# Altium schematic symbol library Orion Sleep - Control Board - Rev 2.SCHLIB: 156 symbols (part 2 of 3)
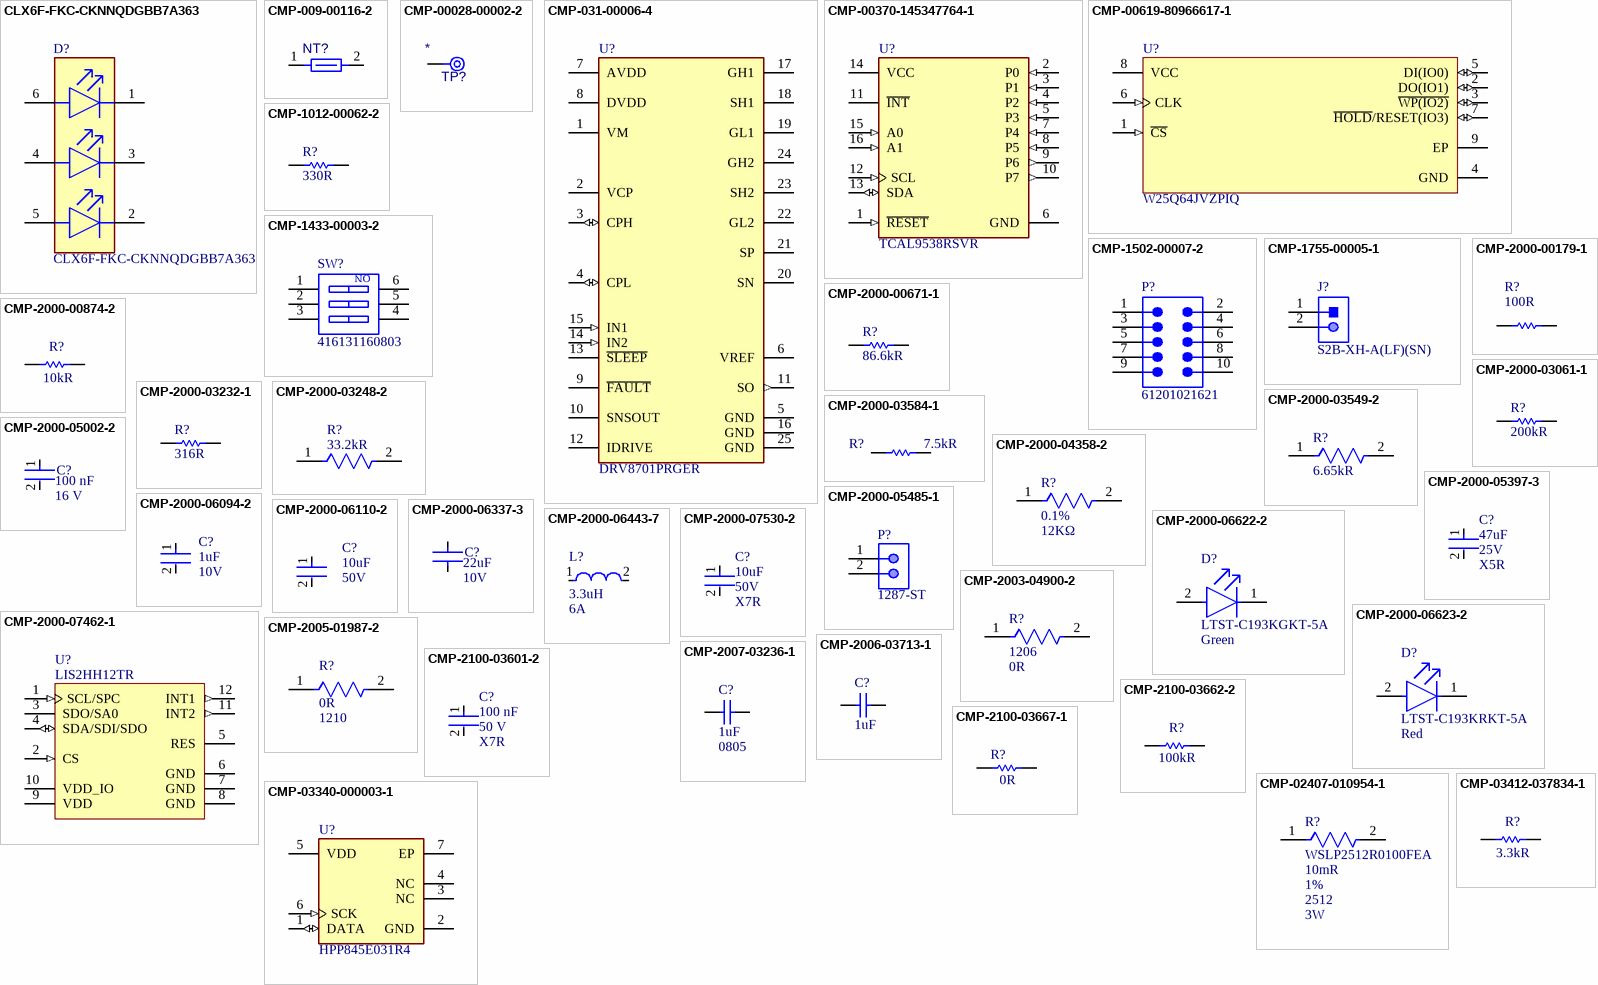
[diagram p4: symbols CLX6F-FKC-CKNNQDGBB7A363 to CMP-03412-037834-1]

## CMP-2000-07530-2
designator C?, comment value 10uF  Temperature Characteristic: X7R  Voltage Rating: 50V  (hidden comment: CL31B106KBHNNNE)
10 µF ±10% 50V Ceramic Capacitor X7R 1206 (3216 Metric); Manufacturer: Samsung; Manufacturer 1: Samsung Electro-Mechanics; Temperature Coefficient: 15%; Digikey Description: CAP CER 10UF 50V X7R 1206; Device Class L1: Passive Components; Lead Free: Yes; Device Class L3: Ceramic Capacitors; Tolerance: 10%; Octopart: https://octopart.com/cl31b106kbhnnne-samsung-30507377; ComponentLink2URL: http://www.samsungsem.com/global/front/downloadcms.do?path=%2F%2Fglobal%2F%2Fsupport%2F%2Fproduct-search%2F%2Fmlcc%2F%2F__icsFiles%2F%2Fafieldfile%2F%2F2019%2F%2F06%2F%2F18&fileName=CL31B106KBHNNNE-19.pdf; Temperature Range Low: -55°C; RoHS: TRUE; Material: Ceramic; Temperature: -55°C to +125°C; Category: Cap; ComponentLink2Description: Datasheet; Manufacturer Part Number: CL31B106KBHNNNE; Automotive: No; Device Class L2: Capacitors; Capacitance: 10uF; Height: 1.8mm; Temperature Range High: +125°C; Package: CL31B106KBHNNNE; Manufacturer Part Number 1: CL31B106KBHNNNE; Supplier 1: Digikey; Supplier Part Number 1: 1276-6767-1-ND
footprint C1206
pins: 1, 2

## CMP-2003-04900-2
designator R?, comment Case/Package: 1206  Resistance: 0R  (hidden comment: AC1206JR-070RL)
0 Ohms Jumper Chip Resistor 1206 (3216 Metric) Automotive AEC-Q200, Moisture Resistant Thick Film; Manufacturer 1: YAGEO; Tolerance: 5%; Temperature Coefficient: 200ppm/°C; Power Rating: 250mW; Voltage Rating: 200V; Value: 0R; Lead Free: Lead Free; Termination: SMD/SMT; Length: 0.122inch; Height: 0.026inch; Series: AC; Max Operating Temperature: 155°C; Case Code (Imperial): 1206; Max Power Dissipation: 250mW; Case Code (Metric): 3216; Number of Terminations: 2; Package Quantity: 5000; Features: Moisture Resistant; Resistor Type: Thick Film; Min Operating Temperature: -55°C; Packaging: Tape and Reel; Width: 0.063inch; RoHS Compliant: Yes; Manufacturer Part Number 1: AC1206JR-070RL; Supplier 1: Digikey; Supplier Part Number 1: 311-0.0LICT-ND
footprint R1206 (Chip Resistor; Body 3.1 x 1.6 mm (LxW typ))
pins: 1, 2

## CMP-2005-01987-2
designator R?, comment Resistance: 0R  Case Code (Imperial): 1210  (hidden comment: CRCW12100000Z0EA)
0 Ohms Jumper Chip Resistor 1210 (3225 Metric) Automotive AEC-Q200 Thick Film; Manufacturer 1: Vishay Dale; Temperature Coefficient: 0ppm/°C; Max Power Dissipation: 500mW; Voltage Rating: 200V; Value: 0R; Packaging: Tape and Reel; Max Operating Temperature: 155°C; REACH SVHC: No SVHC; Min Operating Temperature: -55°C; Package Quantity: 1; Length: 3.2mm; Case Code (Metric): 3225; Case/Package: 1210; Composition: Thick Film; Military Standard: Not; Contact Plating: Tin; Radiation Hardening: No; Depth: 2.5mm; Termination: SMD/SMT; Features: Automotive AEC-Q200; Width: 0.098inch; Mount: Surface Mount; Power Rating: 500mW; Weight: 0.000564oz; Number of Terminations: 2; Height: 0.55mm; Manufacturer Part Number 1: CRCW12100000Z0EA; Supplier 1: Digikey; Supplier Part Number 1: 541-0.0VCT-ND
footprint R1210
pins: 1, 2

## CMP-2006-03713-1
designator C?, comment value 1uF  (hidden comment: C0603C105K3RACTU)
1 µF ±10% 25V Ceramic Capacitor X7R 0603 (1608 Metric); Manufacturer: Kemet; Part Number: C0603C105K3RACTU; Manufacturer 1: KEMET; Manufacturer Part Number 1: C0603C105K3RACTU; Supplier 1: Digikey; Supplier Part Number 1: 399-C0603C105K3RACTUCT-ND
footprint C0603 (Chip Capacitor, 2-Leads, Body 1.60x0.80mm)
pins: 1, 2
1 alternate drawing of the same symbol

## CMP-2007-03236-1
designator C?, comment value 1uF  Case/Package: 0805  (hidden comment: C0805C105K5RACTU)
1 µF ±10% 50V Ceramic Capacitor X7R 0805 (2012 Metric); Manufacturer: Kemet; Multilayer: Yes; Part Number: C0805C105K5RACTU; Supplier: Mouser; Supplier Part Number: 80-C0805C105K5R; Manufacturer Part Number: C0805C105K5RACTU; RoHS: Yes; Category: Ceramic Capacitors; Stock: 81648; Pricing: 1=0.31, 10=0.191, 50=0.191, 100=0.133, 1000=0.095, 10000=0.073 (USD); Mounting Technology: Surface Mount; Pins: 2; Dielectric Material: Ceramic; Package Shape: Rectangular; Terminal Finish: Nickel; Min Operating Temperature: -55°C; Max Operating Temperature: 125°C; JESD-609 Code: e3; Capacitor Type: Ceramic; Tolerance  (fill in as +-): 10%; Package Style: SMTMeter; Packaging: Tape and Reel; Tolerance (fill in as +-): 10%; Rated DC Voltage (URdc): 50V; Temperature Characteristics Code: X7R; Termination: Wraparound; Length: 2mm; Width: 1.25mm; Height: 1.25mm; Reach SVHC Compliant: Yes; RoHS Compliant: Yes; ComponentLink1URL: https://datasheet.ciiva.com:443/pdfs/VipMasterIC/IC/KEME/KEME-S-A0008991654/KEME-S-A0008991654-1.pdf?src-supplier=IHS+Markit; ComponentLink1Description: https://datasheet.ciiva.com:443/pdfs/VipMasterIC/IC/KEME/KEME-S-A0008991654/KEME-S-A0008991654-1.pdf?src-supplier=IHS+Markit; ComponentLink2URL: https://datasheet.ciiva.com/7842/1732744-7842192.pdf?src-supplier=Element14; ComponentLink2Description: https://datasheet.ciiva.com/7842/1732744-7842192.pdf?src-supplier=Element14; ComponentLink3URL: https://datasheet.ciiva.com/22700/1851736-22700523.pdf?src-supplier=Element14; ComponentLink3Description: https://datasheet.ciiva.com/22700/1851736-22700523.pdf?src-supplier=Element14; ComponentLink4URL: https://datasheet.ciiva.com/5408/kem-c1002-x7r-smd-5408569.pdf?src-supplier=Mouser; ComponentLink4Description: https://datasheet.ciiva.com/5408/kem-c1002-x7r-smd-5408569.pdf?src-supplier=Mouser; Manufacturer 1: KEMET; Manufacturer Part Number 1: C0805C105K5RACTU; Supplier 1: Digikey; Supplier Part Number 1: 399-C0805C105K5RACTUCT-ND
footprint C0805 (Ceramic Chip Capacitor; Body 2 x 1.2 mm (LxW typ))
pins: 1, 2
1 alternate drawing of the same symbol

## CMP-2100-03601-2
designator C?, comment Voltage: 50 V  Capacitance: 100 nF  Temperature Characteristic: X7R  (hidden comment: CC0603KRX7R9BB104)
0.1 µF ±10% 50V Ceramic Capacitor X7R 0603 (1608 Metric); Manufacturer: YAGEO; Temperature Coefficient: 15%; Tolerance: 0.1; Value: 100nF; Height: 0.9mm; Material: Ceramic; ComponentLink2Description: Datasheet; Device Class L2: Capacitors; Temperature Range High: +125°C; Category: Cap; Footprint Url: http://www.yageo.com/exep/pages/download/literatures/UPY-C_GEN_24.pdf; ComponentLink2URL: http://www.yageo.com/documents/recent/UPY-GPHC_X7R_6.3V-to-50V_18.pdf; Package: CC0603-DA; Temperature: -55°C to +125°C; Voltage Rating: 50 V; Device Class L1: Passive Components; Temperature Range Low: -55°C; Manufacturer Part Number: CC0603KRX7R9BB104; RoHS: TRUE; Automotive: No; Device Class L3: Ceramic Capacitors; Octopart: https://octopart.com/cc0603krx7r9bb104-yageo-42244635; Mouser Description: Multilayer Ceramic Capacitor, CC Series, 0.1 - F, - 10%, X7R, 50 V, 0603 [1608 Metric]; Lead Free: Yes; Digikey Description: CAP CER 0.1UF 50V X7R 0603; Manufacturer 1: YAGEO; Manufacturer Part Number 1: CC0603KRX7R9BB104; Supplier 1: Digikey; Supplier Part Number 1: 311-1344-1-ND
footprint C0603 (Chip Capacitor, 2-Leads, Body 1.60x0.80mm)
pins: 1, 2

## CMP-2100-03662-2
designator R?, comment Resistance: 100kR  (hidden comment: RC0603FR-07100KL)
100 kOhms ±1% 0.1W, 1/10W Chip Resistor 0603 (1608 Metric) Moisture Resistant Thick Film; Manufacturer 1: YAGEO; Voltage Rating (DC): 50V; Max Power Dissipation: 100mW; Temperature Coefficient: 100ppm/°C; Working Voltage: 75V; Value: 100kR; Length: 1.6mm; Lead Free: Lead Free; Number of Terminations: 2; Packaging: Tape and Reel; Voltage Rating: 50V; Termination: SMD/SMT; Width: 0.8mm; Resistor Type: Thick Film; Resistance Tolerance: 1%; Features: Moisture Resistant; Height: 0.45mm; Construction: Rectangular; Case/Package: 0603; Military Standard: Not; Case Code (Imperial): 0603; Series: RC; Technology: THICK FILM; Depth: 0.8mm; RoHS Compliant: Yes; REACH SVHC: No SVHC; Min Operating Temperature: -55°C; Case Code (Metric): 1608; Max Operating Temperature: 155°C; Power Rating: 100mW; Number of Pins: 2; Tolerance: 1%; Manufacturer Part Number 1: RC0603FR-07100KL; Supplier 1: Digikey; Supplier Part Number 1: 311-100KHRCT-ND
footprint R0603 (Chip Resistor; Body 1.6 x 0.9 mm (LxW typ))
pins: 1, 2

## CMP-2100-03667-1
designator R?, comment Resistance: 0R  (hidden comment: RC0603JR-070RL)
0 Ohms Jumper Chip Resistor 0603 (1608 Metric) Moisture Resistant Thick Film; Manufacturer: Yageo; Temperature Coefficient: 200ppm/degreesC; Tolerance: 5%; Voltage Rating: 50V; Power Rating: 100mW; Value: 0R; Width: 0.8mm; Max Operating Temperature: 155degC; Package Reference: 0603; Height: 0.45mm; Depth: 0.8mm; Package Description: 2-Pin Surface Mount Device, Body 1.6 x 0.8 mm; Termination: SMD/SMT; Package Quantity: 5000; Case/Package: 0603; Case Code (Imperial): 0603; Radiation Hardening: No; Number of Pins: 2; Length: 1.6mm; Lead Free: LeadFree; Voltage Rating (DC): 50V; Military Standard: Not; Datasheet URL: http://www.yageo.com/NewPortal/yageodocoutput?fileName=/pdf/R-Chip/PYu-RC_Group_51_RoHS_L_5.pdf; Manufacturer URL: http://www.yageo.com/; Packaging: TapeandReel; Case Code (Metric): 1608; Min Operating Temperature: -55degC; Composition: ThickFilm; RoHSCompliant: true; Contact Plating: Tin; Datasheet Version: Rev. 5, 10/2016; REACH SVHC: NoSVHC; Manufacturer 1: YAGEO; Manufacturer Part Number 1: RC0603JR-070RL; Supplier 1: Digikey; Supplier Part Number 1: 311-0.0GRCT-ND
footprint R0603 (Chip Resistor; Body 1.6 x 0.9 mm (LxW typ))
pins: 1, 2

## CMP-02407-010954-1
designator R?, comment WSLP2512R0100FEA  Resistance: 10mR  Resistance Tolerance: 1%  Case Code (Imperial): 2512  Power Rating: 3W
10 mOhms ±1% 3W Chip Resistor 2512 (6432 Metric) Anti-Sulfur, Automotive AEC-Q200, Current Sense, Moisture Resistant, Pulse Withstanding Metal Element; Manufacturer 1: Vishay Dale; Temperature Coefficient: 75ppm/°C; Value: 0.01R; Max Operating Temperature: 170°C; Tolerance: 1%; Series: WSLP; Lead Free: Lead Free; RoHS Compliant: Yes; Packaging: Tape and Reel; Length: 6.4mm; Height: 0.635mm; Package Quantity: 2000; Case Code (Metric): 6432; Case/Package: 2512; Min Operating Temperature: -65°C; Termination: SMD/SMT; Weight: 0.001429oz; Width: 3.2mm; Resistor Type: Metal Strip; Manufacturer Part Number 1: WSLP2512R0100FEA; Supplier 1: Digikey; Supplier Part Number 1: 541-10158-1-ND
footprint R2512 (Chip Resistor; Body 6.4 x 3.2 mm (LxW typ))
pins: 1, 2

## CMP-03340-000003-1
designator U?, comment HPP845E031R4
Humidity, Temperature 0 ~ 100% RH I2C ±2% RH 5 s Surface Mount; Manufacturer: TE; Manufacturer Part Number: HTU21D; Manufacturer 1: TE Connectivity Measurement Specialties; Operating Supply Current: 450uA; Max Supply Voltage: 3.6V; Min Supply Voltage: 1.5V; Interface: I2C,2-Wire; Category: IC; Automotive: No; ComponentLink2Description: Datasheet; Height: 1mm; Device Class L3: unset; Octopart: https://octopart.com/htu21d-te+connectivity-61614170; Device Class L1: Sensors; Temperature Range Low: -40°C; Ambient Temperature Range High: +125°C; Ambient Temperature Range Low: -40°C; Temperature Range High: +125°C; Lead Free: Yes; Package: 0; Ipc Land Pattern Name: DFN300X300X90-6; Temperature: -40°C to +125°C; ComponentLink2URL: https://www.te.com/commerce/DocumentDelivery/DDEController?Action=showdoc&DocId=Data+Sheet%7FHPC199_6%7FA6%7Fpdf%7FEnglish%7FENG_DS_HPC199_6_A6.pdf%7FCAT-HSC0004; RoHS: TRUE; Device Class L2: Temperature and Humidity Sensors; Sensor Output: I2C; Accuracy: 2%; Manufacturer Part Number 1: HPP845E031R4; Supplier 1: Digikey; Supplier Part Number 1: 223-1144-1-ND
footprint FP-HTU21D-MFG
footprint FP-HTU21D-IPC_C
footprint FP-HTU21D-IPC_B
footprint FP-HTU21D-IPC_A
pins: 1 DATA (io), 2 GND (power), 3 NC, 4 NC, 5 VDD (power), 6 SCK (in), 7 EP (power)

## CMP-03412-037834-1
designator R?, comment Resistance: 3.3kR  (hidden comment: RC0603JR-073K3L)
3.3 kOhms ±5% 0.1W, 1/10W Chip Resistor 0603 (1608 Metric) Moisture Resistant Thick Film; Manufacturer 1: YAGEO; Voltage Rating (DC): 50V; Max Power Dissipation: 100mW; Temperature Coefficient: 100ppm/°C; Value: 3.3kR; Series: RC; Case/Package: 0603; Construction: Rectangular; Features: Moisture Resistant; Max Operating Temperature: 155°C; Termination: SMD/SMT; REACH SVHC: No SVHC; Packaging: Tape and Reel; RoHS Compliant: Yes; Length: 1.6mm; Lead Free: Lead Free; Military Standard: Not; Size Code: 0603; Resistance Tolerance: 5%; Resistor Type: Thick Film; Case Code (Imperial): 0603; Tolerance: 5%; Case Code (Metric): 1608; Width: 0.8mm; Power Rating: 100mW; Voltage Rating: 50V; Number of Pins: 2; Number of Terminations: 2; Depth: 0.8mm; Min Operating Temperature: -55°C; Manufacturer Part Number 1: RC0603JR-073K3L; Supplier 1: Digikey; Supplier Part Number 1: 311-3.3KGRCT-ND
footprint R0603 (Chip Resistor; Body 1.6 x 0.9 mm (LxW typ))
pins: 1, 2

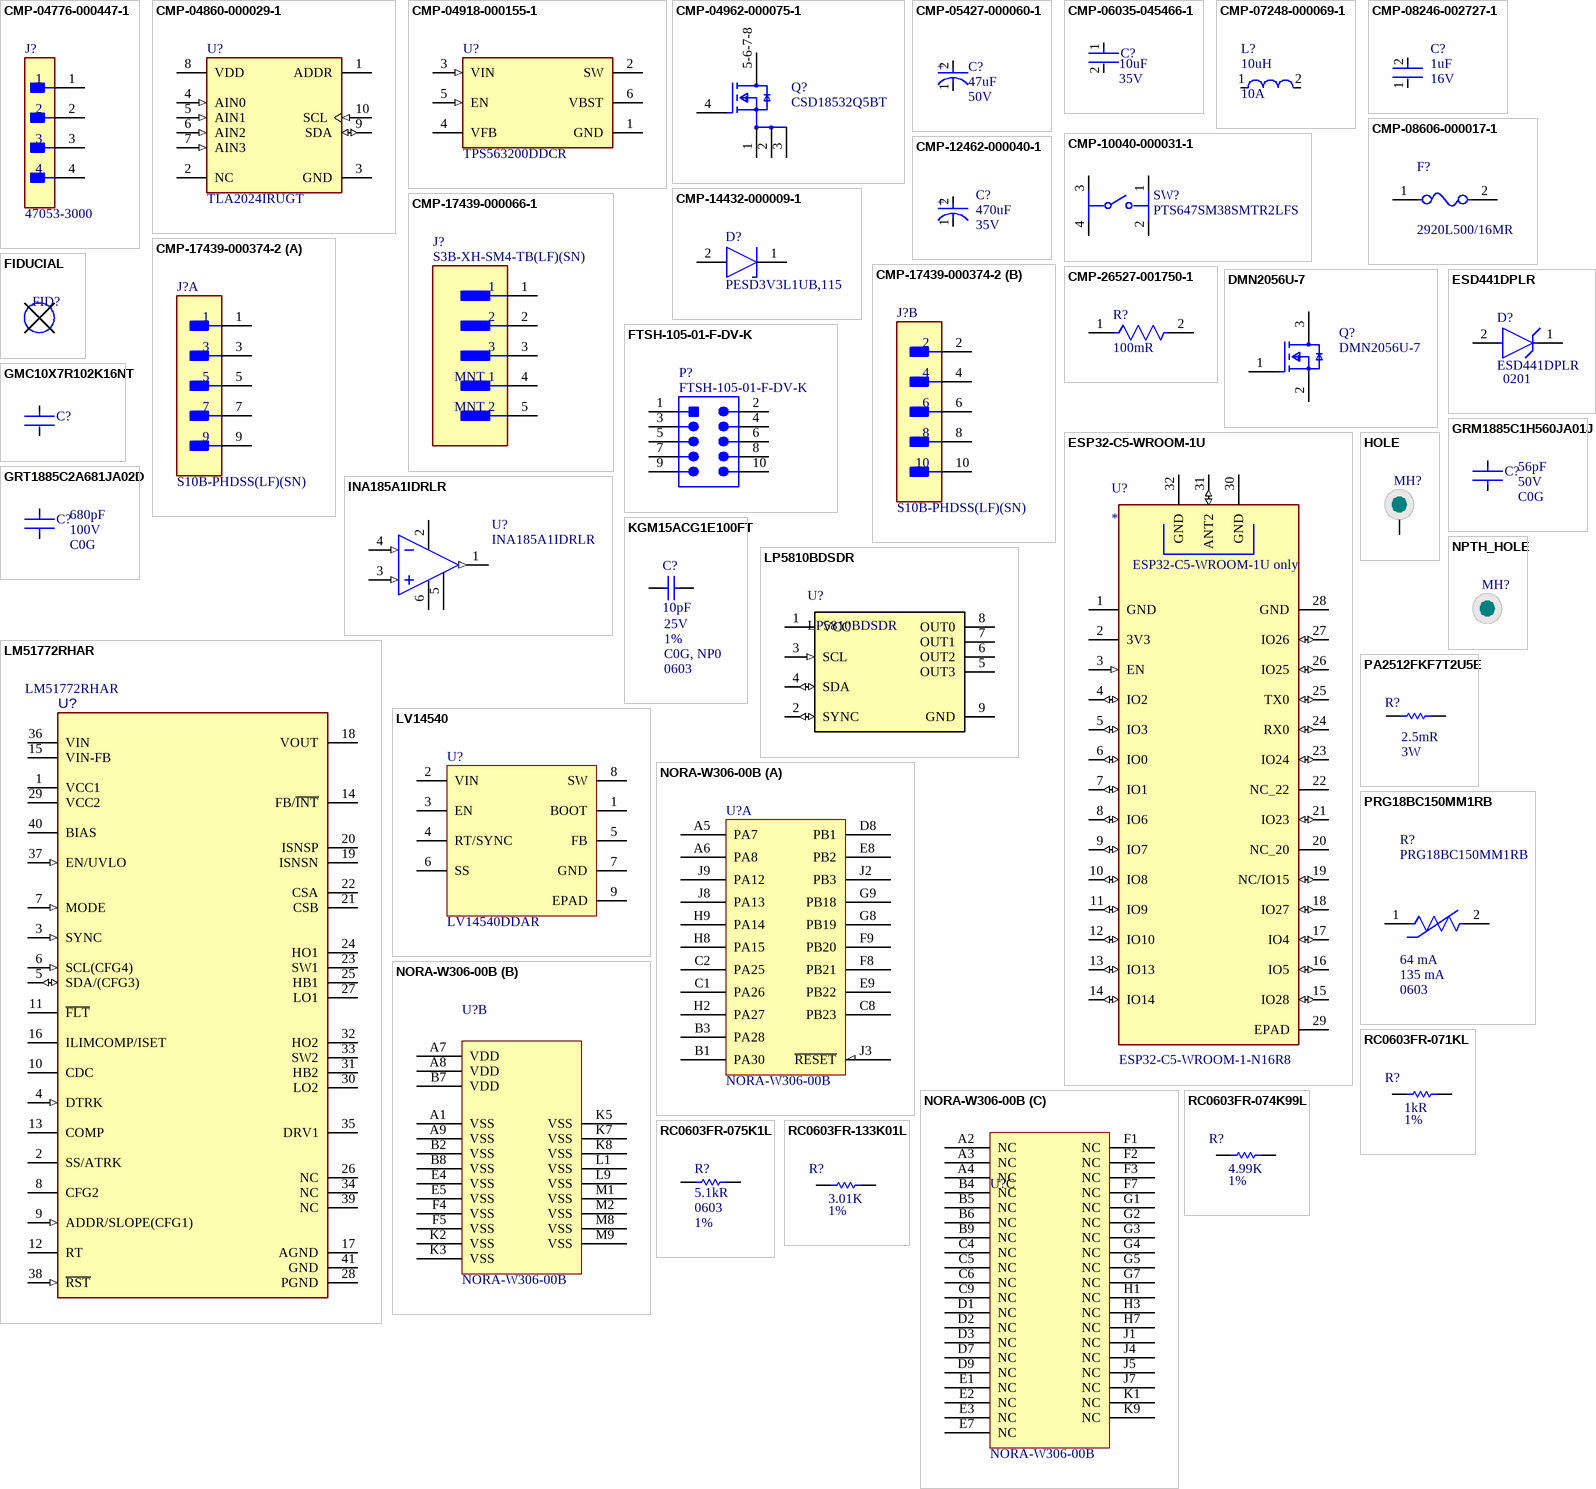
[diagram p2: symbols CMP-04776-000447-1 to RC0603FR-133K01L]

## CMP-04776-000447-1
designator J?, comment 47053-3000
Connector Header Through Hole 4 position 0.100" (2.54mm); Manufacturer 1: Molex; Glow Wire Compliant: Non-compliant; Voltage Rating: 250V; Current Rating: 4A; Number of Circuits: 4; Gender: Male; Orientation: Straight; Packaging: Bulk; Series: 47053; RoHS Compliant: Yes; Termination: Through Hole; Contact Plating: Tin; Mount: Through Hole; Number of Rows: 1; Pitch: 2.54mm; Halogen Free: Low Halogen; Number of Contacts: 4; Min Operating Temperature: 0°C; Package Quantity: 12000; Contact Material: Copper Alloy; Max Operating Temperature: 75°C; REACH SVHC: No SVHC; Number of Positions: 4; Manufacturer Part Number 1: 47053-3000; Supplier 1: Digikey; Supplier Part Number 1: WM9797-ND
footprint FP-47053-3000-MFG
pins: 1, 2, 3, 4

## CMP-04860-000029-1
designator U?, comment TLA2024IRUGT
12 Bit Analog to Digital Converter 4 Input 1 Sigma-Delta 10-X2QFN (2x1.5); Manufacturer 1: Texas Instruments; Number of Inputs: 4; Number of Bits: 12; Interface: I2C; Sampling Rate: 3300S/s; Number of A/D Converters: 1; RoHS Compliant: Yes; Max Operating Temperature: 85°C; Min Operating Temperature: -40°C; Packaging: Cut Tape; Manufacturer Part Number 1: TLA2024IRUGT; Supplier 1: Digikey; Supplier Part Number 1: 296-48346-1-ND
footprint FP-RUG0010A-MFG
pins: 1 ADDR (power), 2 NC, 3 GND (power), 4 AIN0 (in), 5 AIN1 (in), 6 AIN2 (in), 7 AIN3 (in), 8 VDD (power), 9 SDA (io), 10 SCL (in)

## CMP-04918-000155-1
designator U?, comment TPS563200DDCR
Buck Switching Regulator IC Positive Adjustable 0.76V 1 Output 3A SOT-23-6 Thin, TSOT-23-6; Manufacturer 1: Texas Instruments; Quiescent Current: 190uA; Output Voltage: 7V; Min Input Voltage: 4.5V; Number of Outputs: 1; Switching Frequency: 650kHz; Synchronous Rectifier: Yes; Min Output Voltage: 760mV; Operating Supply Voltage: 17V; Max Operating Temperature: 125°C; Lead Free: Lead Free; Output Configuration: Positive; Packaging: Tape and Reel; Radiation Hardening: No; Mount: Surface Mount; Contact Plating: Tin; Output Current: 3A; Max Output Voltage: 7V; Output Type: Adjustable; Min Operating Temperature: -40°C; Case/Package: SOT-23-6; Max Output Current: 3A; Max Input Voltage: 17V; Manufacturer Part Number 1: TPS563200DDCR; Supplier 1: Digikey; Supplier Part Number 1: 296-43663-1-ND
footprint FP-DDC0006A-MFG
footprint FP-DDC0006A-IPC_A
footprint FP-DDC0006A-IPC_B
footprint FP-DDC0006A-IPC_C
pins: 1 GND (power), 2 SW, 3 VIN (in), 4 VFB, 5 EN (in), 6 VBST

## CMP-04962-000075-1
designator Q?, comment CSD18532Q5BT
N-Channel 60 V 100A (Ta) 3.2W (Ta), 156W (Tc) Surface Mount 8-VSONP (5x6); Manufacturer 1: XNRUSEMI; Manufacturer Part Number 1: XRS100N06HF; Fall Time: 3.1ns; Rise Time: 7.2ns; Element Configuration: Single; Turn-Off Delay Time: 22ns; Input Capacitance: 5.07nF; Rds On Max: 3.2mR; Gate to Source Voltage (Vgs): 20V; Drain to Source Voltage (Vdss): 60V; Turn-On Delay Time: 5.8ns; Max Power Dissipation: 3.2W; Packaging: Tape and Reel; Continuous Drain Current (ID): 100A; Min Operating Temperature: -55°C; Number of Pins: 8; Contact Plating: Tin; Lead Free: Contains Lead; RoHS Compliant: Yes; Max Operating Temperature: 150°C; Mount: Surface Mount; Supplier 1: LCSC; Supplier Part Number 1: C42457050; Manufacturer 2: Texas Instruments; Manufacturer Part Number 2: CSD18532Q5BT; Supplier 2: Digikey; Supplier Part Number 2: 296-46414-1-ND
footprint FP-DNK0008A-MFG
pins: 1 S, 2 S, 3 S, 4 G, 5-6-7-8 D

## CMP-05427-000060-1
designator C?, comment Voltage: 50V  Capacitance: 47uF  (hidden comment: EEEFT1H470AP)
47 µF 50 V Aluminum Electrolytic Capacitors Radial, Can - SMD 680mOhm @ 100kHz 2000 Hrs @ 105°C; Manufacturer 1: Panasonic Electronic Components; ESR (Equivalent Series Resistance): 680mR; Ripple Current (AC): 195mA; Tolerance: 20%; Dielectric Material: Aluminium; Leakage Current: 23.5uA; Life (Hours): 2000Hour; Lead Diameter: 0.65mm; Value: 47uF; Lead Pitch: 1.8mm; Min Operating Temperature: -55°C; Radiation Hardening: No; Series: FT; Contact Plating: Tin; Mount: Surface Mount; REACH SVHC: No SVHC; RoHS Compliant: Yes; Package Quantity: 1; Construction: Cylindrical; Max Operating Temperature: 105°C; Packaging: Tape and Reel; Length: 5.8mm; Number of Pins: 2; Diameter: 6.3mm; Voltage Rating (DC): 50V; Voltage Rating: 50V; Height - Seated (Max): 0.24inch; Height: 5.8mm; Lead Free: Lead Free; Case/Package: Radial; Ripple Current: 195mA; Termination: SMD/SMT; Manufacturer Part Number 1: EEEFT1H470AP; Supplier 1: Digikey; Supplier Part Number 1: PCE5023CT-ND
footprint FP-FTD-MFG
pins: 1 C, 2 A
text: +

## CMP-06035-045466-1
designator C?, comment Voltage Rating (DC): 35V  Capacitance: 10uF  (hidden comment: GRM188R6YA106MA73D)
10 µF ±20% 35V Ceramic Capacitor X5R 0603 (1608 Metric); Manufacturer 1: Murata Electronics; Value: 10uF; Case Code (Imperial): 0603; Width: 0.031inch; Dielectric: X5R; Voltage Rating: 35V; Min Operating Temperature: -55°C; Thickness: 0.039inch; Mount: Surface Mount; Case/Package: 0603; Length: 0.063inch; Max Operating Temperature: 85°C; Packaging: Tape and Reel; Tolerance: 20%; Case Code (Metric): 1608; Manufacturer Part Number 1: GRM188R6YA106MA73D; Supplier 1: Digikey; Supplier Part Number 1: 490-13248-1-ND
footprint C0603 (Chip Capacitor, 2-Leads, Body 1.60x0.80mm)
pins: 1, 2

## CMP-07248-000069-1
designator L?, comment Max DC Current: 10A  Inductance: 10uH  (hidden comment: SRP1265A-100M)
10 µH Shielded Drum Core, Wirewound Inductor 10 A 16.5mOhm Max Nonstandard; Manufacturer 1: Bourns Inc.; Self Resonant Frequency: 10MHz; Test Frequency: 100kHz; Q Factor: 20; Saturation Current: 15.5A; Tolerance: 20%; Core Material: Carbonyl Powder; DC Resistance (DCR): 16.5mR; Value: 10uH; REACH SVHC: No SVHC; Case/Package: Nonstandard; Length: 13.5mm; Shielding: Shielded; RMS Current (Irms): 10A; Termination: SMD/SMT; Ratings: AEC-Q200; Max Operating Temperature: 150°C; Height: 6.2mm; Resistor Type: Wirewound; Min Operating Temperature: -40°C; Mount: Surface Mount; Packaging: Cut Tape; Depth: 12.5mm; Package Quantity: 500; RoHS Compliant: Yes; Current Rating: 10A; Inductance Tolerance: 20%; Width: 0.492inch; Height - Seated (Max): 0.252inch; Manufacturer Part Number 1: SRP1265A-100M; Supplier 1: Digikey; Supplier Part Number 1: SRP1265A-100MCT-ND
footprint FP-SRP1265A-100M-MFG
pins: 1, 2

## CMP-08246-002727-1
designator C?, comment Voltage: 16V  Capacitance: 1uF  (hidden comment: C1608X7R1C105K080AC)
1 µF ±10% 16V Ceramic Capacitor X7R 0603 (1608 Metric); Manufacturer 1: TDK Corporation; Value: 1uF; Mount: Surface Mount; Width: 0.031inch; Radiation Hardening: No; Dielectric Material: Ceramic; Packaging: Tape and Reel; Voltage Rating: 16V; Weight: 7.1E-05oz; Termination: SMD/SMT; Package Quantity: 1; Voltage Rating (DC): 16V; REACH SVHC: No SVHC; Min Operating Temperature: -55°C; Depth: 0.8mm; Height: 0.8mm; Length: 1.6mm; Case Code (Metric): 1608; Thickness: 0.037inch; Lead Free: Lead Free; Resistor Type: Ceramic; RoHS Compliant: Yes; Series: C; Construction: Flat; Max Operating Temperature: 125°C; Tolerance: 10%; Case/Package: 0603; Dielectric: X7R; Case Code (Imperial): 0603; Manufacturer Part Number 1: C1608X7R1C105K080AC; Supplier 1: Digikey; Supplier Part Number 1: 445-1604-1-ND
footprint C0603 (Chip Capacitor, 2-Leads, Body 1.60x0.80mm)
pins: 1, 2

## CMP-08606-000017-1
designator F?, comment 2920L500/16MR
Polymeric PTC Resettable Fuse 16V 5 A Ih Surface Mount 2920 (7351 Metric), Concave; Manufacturer: Littelfuse; Manufacturer 1: Littelfuse Inc.; Trip Time: 5s; Resistance: 0.005-0.025Ω; Trip Current: 10A; Current Rating: 40A; Hold Current: 5A; Category: Fuse; ComponentLink2URL: https://www.littelfuse.com/~/media/electronics/datasheets/resettable_ptcs/littelfuse_ptc_2920l_datasheet.pdf.pdf; Voltage Rating: 16V; RoHS: TRUE; Manufacturer Part Number: 2920L500/16MR; Ambient Temperature Range High: +85°C; Ambient Temperature Range Low: -40°C; Temperature Range Low: -40°C; Automotive: No; Octopart: https://octopart.com/2920l500%2F16mr-littelfuse-28867177; Package: 2920L; Height: 1.6mm; Lead Free: Yes; Device Class L1: Circuit Protection; Temperature: -40°C to +85°C; Mouser Description: PTC Resettable Fuse 5A(hold) 10A(trip) 16VDC 40A 2W 5s 0.005Ohm SMD Solder Pad 7.98 X 5.44 X 1.6mm T/R; Device Class L3: unset; Digikey Description: PTC RESET FUSE 16V 5A 2920; Device Class L2: PTC Resettable Fuses; ComponentLink2Description: Datasheet; Temperature Range High: +85°C; Manufacturer Part Number 1: 2920L500/16MR; Supplier 1: Digikey; Supplier Part Number 1: F6136CT-ND
footprint FP-2920L-MFG
pins: 1, 2

## CMP-10040-000031-1
designator SW?, comment PTS647SM38SMTR2LFS
Tactile Switch SPST-NO Top Actuated Surface Mount; Manufacturer 1: C&K; Operating Force: 180gf; Throw Configuration: SPST; Mechanical Life: 100000Cycles; Ratings: IP40; Switch Travel: 0.25mm; Switch Function: Off-Mom; Actuator Type: Standard; Illumination Type: Non-Illuminated; Max Operating Temperature: 70°C; Packaging: Cut Tape; Min Operating Temperature: -20°C; Mount: Surface Mount; Termination: Gull Wing; Manufacturer Part Number 1: PTS647SM38SMTR2LFS; Supplier 1: Digikey; Supplier Part Number 1: PTS647SM38SMTR2LFSCT-ND
footprint FP-PTS647SM38SMTR2LFS-MFG
pins: 1, 2, 3, 4

## CMP-12462-000040-1
designator C?, comment Capacitance: 470uF  Voltage Rating: 35V  (hidden comment: UCL1V471MNL1GS)
470 µF 35 V Aluminum Electrolytic Capacitors Radial, Can - SMD 2000 Hrs @ 105°C; Manufacturer 1: Nichicon; Dielectric Material: Aluminium; Tolerance: 20%; Leakage Current: 3uA; Ripple Current (AC): 1.19A; Impedance: 60mR; Dissipation Factor: 0.12%; Life (Hours): 2000Hour; Value: 470uF; Case/Package: Radial; REACH SVHC: No SVHC; Series: CL; Radiation Hardening: No; Voltage Rating (DC): 35V; Max Operating Temperature: 105°C; Height - Seated (Max): 0.531inch; RoHS Compliant: Yes; Number of Pins: 2; Material: Aluminium; Min Operating Temperature: -55°C; Ripple Current: 1.19A; Lead Free: Lead Free; Diameter: 10mm; Mount: Surface Mount; Termination: SMD/SMT; Height: 13.5mm; Package Quantity: 1; Length: 13.5mm; Construction: Cylindrical; Packaging: Tape and Reel; Manufacturer Part Number 1: UCL1V471MNL1GS; Supplier 1: Digikey; Supplier Part Number 1: 493-3961-1-ND
footprint FP-UCL1V471MNL1GS-MFG
pins: 1 C, 2 A
text: +

## CMP-14432-000009-1
designator D?, comment PESD3V3L1UB,115
TVS DIODE 3.3VWM 11V Clamp 4.5A (8/20µs) Ipp Tvs Diode Surface Mount SOD-523; Manufacturer 1: Nexperia USA Inc.; RoHS Compliant: Yes; Manufacturer Part Number 1: PESD3V3L1UB,115; Supplier 1: Digikey; Supplier Part Number 1: 1727-5418-1-ND; Manufacturer 2: onsemi; Manufacturer Part Number 2: ESD5Z3.3T1G; Supplier 2: Digikey; Supplier Part Number 2: ESD5Z3.3T1GOSCT-ND
footprint FP-SOD523-MFG
pins: 1 C, 2 A

## CMP-17439-000066-1
designator J?, comment S3B-XH-SM4-TB(LF)(SN)
Connector Header Surface Mount, Right Angle 3 position 0.098" (2.50mm); Manufacturer 1: JST Sales America Inc.; Number of Positions: 3; Max Current Rating: 3A; Pitch: 2.5mm; Gender: Male; Max Voltage Rating (AC): 250V; Contact Resistance: 20mR; Connector Type: Male Pin; Max Operating Temperature: 85°C; Orientation: Right Angle; Series: XH; Number of Rows: 1; Housing Material: Polyamide; Packaging: Tape and Reel; Number of Contacts: 3; REACH SVHC: No SVHC; Housing Color: Beige; Mount: Surface Mount; Contact Material: Copper Alloy; Package Quantity: 1; Color: Natural; Min Operating Temperature: -25°C; Termination: Solder; Fastening Type: Detent; Lead Free: Lead Free; Length: 12.5mm; Depth: 10mm; Contact Plating: Tin; Contact Type: Male Pin; Manufacturer Part Number 1: S3B-XH-SM4-TB(LF)(SN); Supplier 1: Digikey; Supplier Part Number 1: 455-S3B-XH-SM4-TBCT-ND
footprint FP-S3B-XH-SM4-TB_LF_SN-MFG
pins: 1, 2, 3, 4 MNT 1, 5 MNT 2

## CMP-17439-000374-2
designator J?, comment S10B-PHDSS(LF)(SN)
Connector Header Through Hole, Right Angle 10 position 0.079" (2.00mm); Manufacturer 1: JST Sales America Inc.; Pitch: 2mm; Number of Contacts: 10; Row Spacing: 0.079inch; Voltage Rating: 250V; Current Rating: 3A; Gender: Male; Contact Resistance: 20mR; Mount: Through Hole; Packaging: Bulk; Number of Rows: 2; Series: PHD; Depth: 9.5mm; Max Operating Temperature: 85°C; Number of Positions: 10; Connector Type: Header; Contact Plating: Copper; Contact Finish - Mating: TIN; Insulation Material: Nylon; Width: 5mm; Housing Color: Beige; Min Operating Temperature: -25°C; Flammability Rating: UL94 V-0; Termination: Solder; Contact Shape: Square; Color: Natural; Housing Material: Polyamide; Insulation Color: Natural; Contact Mating Length: 0.114inch; Length: 11.9mm; Height: 9.5mm; Lead Free: Lead Free; Contact Material: Copper Alloy; Orientation: Right Angle; Max Voltage Rating (AC): 250V; Contact Type: Male Pin; Max Current Rating: 3A; Fastening Type: Detent; Manufacturer Part Number 1: S10B-PHDSS(LF)(SN); Supplier 1: Digikey; Supplier Part Number 1: 455-S10B-PHDSS-ND
footprint FP-S10B-PHDSS_LF_SN-MFG
part A pins: 1, 3, 5, 7, 9
part B pins: 2, 4, 6, 8, 10

## CMP-26527-001750-1
designator R?, comment Resistance: 100mR  (hidden comment: CSR1206FTR100)
100 mOhms ±1% 0.5W, 1/2W Chip Resistor 1206 (3216 Metric) Current Sense Thick Film; Manufacturer 1: Stackpole Electronics Inc; Temperature Coefficient: 100ppm/°C; Max Power Dissipation: 500mW; Value: 0.1R; Package Quantity: 1; Series: CSR; Military Standard: Not; Case Code (Imperial): 1206; Case/Package: 1206; Max Operating Temperature: 155°C; Mount: Surface Mount; Lead Free: Lead Free; Number of Terminations: 2; Construction: Rectangular; Resistor Type: Thick Film; Min Operating Temperature: -55°C; Width: 0.061inch; Length: 0.12inch; RoHS Compliant: Yes; Depth: 1.55mm; Tolerance: 1%; Packaging: Tape and Reel; Contact Plating: Tin; Height: 0.026inch; Case Code (Metric): 3216; Radiation Hardening: No; Manufacturer Part Number 1: CSR1206FTR100; Supplier 1: Digikey; Supplier Part Number 1: CSR1206FTR100CT-ND
footprint R1206 (Chip Resistor; Body 3.1 x 1.6 mm (LxW typ))
pins: 1, 2

## DMN2056U-7
designator Q?
N-Channel 20 V 4A (Ta) 940mW Surface Mount SOT-23-3; Manufacturer 1: Diodes Incorporated; Case/Package: SOT-23-3; Manufacturer Part Number 1: DMN2056U-7; Supplier 1: Digikey; Supplier Part Number 1: DMN2056U-7DIDKR-ND; Current - Continuous Drain (Id) @ 25°C: 4A
footprint FP-SOT23-MFG
pins: 1 G, 2 S, 3 D

## ESD441DPLR
designator D?  Case/Package: 0201
7.6V (Typ) Clamp 6A (8/20µs) Ipp Tvs Diode Surface Mount 2-X2SON (0.6x0.3); Manufacturer 1: Texas Instruments; Voltage - Reverse Standoff (Typ): 5.5V; Voltage - Breakdown (Min): 6V; Manufacturer Part Number 1: ESD441DPLR; Supplier 1: Mouser; Supplier Part Number 1: 595-ESD441DPLR; Voltage - Clamping (Max) @ Ipp: 7.6V (Typ)
footprint FP-DPL0002A-MFG (1-pF, 5.5-V, 30-KV ESD protection device in 0201 package 2-X2SON -40 to 125)
pins: 1 IO, 2 GND

## ESP32-C5-WROOM-1U
designator U?  Manufacturer Part Number 1: ESP32-C5-WROOM-1-N16R8
802.15.4, Bluetooth, WiFi 802.11b/g/n/ac/ax, Bluetooth v5.0, Thread, ZigbeeÂ® Transceiver Module 2.412GHz ~ 2.484GHz, 5.18GHz ~ 5.885GHz Antenna Not Included Surface Mount; Manufacturer 1: Espressif Systems; Supplier 1: Digikey; Supplier Part Number 1: 1965-ESP32-C5-WROOM-1-N16R8CT-ND; Manufacturer 2: Espressif Systems; Manufacturer Part Number 2: ESP32-C5-WROOM-1-N8R8; Supplier 2: Digikey; Supplier Part Number 2: 1965-ESP32-C5-WROOM-1-N8R8CT-ND
footprint ESP32-C5-WROOM-1 (Footprint compatible to 1U version)
pins: 1 GND (power), 2 3V3 (power), 3 EN (in), 4 IO2 (io), 5 IO3 (io), 6 IO0 (io), 7 IO1 (io), 8 IO6 (io), 9 IO7 (io), 10 IO8 (io), 11 IO9 (io), 12 IO10 (io), 13 IO13 (io), 14 IO14 (io), 15 IO28 (io), 16 IO5 (io), 17 IO4 (io), 18 IO27 (io), 19 NC/IO15 (io), 20 NC_20, 21 IO23 (io), 22 NC_22, 23 IO24 (io), 24 RX0 (io), 25 TX0 (io), 26 IO25 (io), 27 IO26 (io), 28 GND (power), 29 EPAD (power), 30 GND (power), 31 ANT2 (io), 32 GND (power)
text: ESP32-C5-WROOM-1U only

## FIDUCIAL
designator FID?  (value not drawn)  (no BOM)
Fiducial point.
footprint FIDUCIAL (1mm fiducial point with)
pins: 1

## FTSH-105-01-F-DV-K
designator P?
Connector Header Surface Mount 10 position 0.050" (1.27mm); Manufacturer 1: Samtec Inc.; Manufacturer Part Number 1: FTSH-105-01-F-DV-K; Supplier 1: Digikey; Supplier Part Number 1: SAM8796-ND
footprint SMTC-FTSH-105-01-L-DV-K_V (CONN, 10-Leads, Body 6.35x3.43mm, Pitch 1.27mm)
pins: 1, 2, 3, 4, 5, 6, 7, 8, 9, 10

## GMC10X7R102K16NT
designator C?  (value not drawn)
1000 pF ±10% 16V Ceramic Capacitor X7R 0603 (1608 Metric); Manufacturer 1: Cal-Chip Electronics, Inc.; Value: 1000pF; Manufacturer Part Number 1: GMC10X7R102K16NT; Supplier 1: Digikey; Supplier Part Number 1: 4713-GMC10X7R102K16NTCT-ND; Voltage: 16V
footprint C0603 (Chip Capacitor, 2-Leads, Body 1.60x0.80mm)
pins: 1, 2

## GRM1885C1H560JA01J
designator C?  value 56pF  Dielectric: C0G  Voltage Rating: 50V  (hidden comment: GRM1885C1H560JA01J)
CAP CER 56PF 50V C0G/NP0 0603; Manufacturer 1: Murata Power Solutions Inc.; Tolerance: 5%; Case/Package: 0603; Manufacturer Part Number 1: GRM1885C1H560JA01J; Supplier 1: Digikey; Supplier Part Number 1: 2266-GRM1885C1H560JA01JTR-ND
footprint C0603 (Chip Capacitor, 2-Leads, Body 1.60x0.80mm)
pins: 1, 2

## GRT1885C2A681JA02D
designator C?  value 680pF  Dielectric: C0G  Voltage Rating: 100V  (hidden comment: GRT1885C2A681JA02D)
CAP CER 680PF 100V C0G/NP0 0603; Manufacturer 1: Murata Electronics; Tolerance: 5%; Case/Package: 0603; Manufacturer Part Number 1: GRT1885C2A681JA02D; Supplier 1: Digikey; Supplier Part Number 1: 490-GRT1885C2A681JA02DCT-ND
footprint C0603 (Chip Capacitor, 2-Leads, Body 1.60x0.80mm)
pins: 1, 2

## HOLE
designator MH?  (value not drawn)  (no BOM)
Mounting Hole
footprint HOLE (4.2 MM PTH HOLE)
pins: 1

## INA185A1IDRLR
designator U?
Current Sense Amplifier 1 Circuit Rail-to-Rail SOT-563; Manufacturer 1: Texas Instruments; Supplier 1: Digikey; Supplier Part Number 1: 296-INA185A1IDRLRCT-ND; Manufacturer Part Number 1: INA185A1IDRLR
footprint INA185A1IDRLR
pins: 1 VOUT (out) "Noninverting amplifier output", 2 gnd (power) "Amplifier negative power-supply input. Note that VS- is tied together on multi-channel devices.", 3 VIN+ (in) "Noninverting amplifier input", 4 VIN- (in) "Inverting amplifier input", 5 VREF (power) "Amplifier positive power-supply input", 6 VS+ (power) "Amplifier positive power-supply input"

## KGM15ACG1E100FT
designator C?  value 10pF  Case/Package: 0603  Temperature Coefficient: C0G, NP0  Voltage: 25V  Tolerance: 1%  (hidden comment: KGM15ACG1E100FT)
10 pF ±1% 25V Ceramic Capacitor C0G, NP0 0603 (1608 Metric); Manufacturer 1: KYOCERA AVX; Supplier 1: Digikey; Supplier Part Number 1: 478-KGM15ACG1E100FTDKR-ND; Manufacturer Part Number 1: KGM15ACG1E100FT
footprint C0603 (Chip Capacitor, 2-Leads, Body 1.60x0.80mm)
pins: 1, 2
1 alternate drawing of the same symbol

## LM51772RHAR
designator U?
48-V 4 Switch Buck-Boost Controller with I2C interface; Manufacturer 1: Texas Instruments; SizeZ_mm: 1mm; AEC Qualified: No; Max Supply Voltage: 48V; Min Supply Voltage: 3.3V; Nominal Supply Current: 25uA; Number Of Outputs: 1; Output Type: AdjustableProgrammable; Output Voltage: 3.3-48V; Standoff Height: 0mm; Switching Frequency: 100-2200kHz; Switching Topology: Boost,Buck,Buck-Boost; TJmax_C: +150°C; PackageReference: VQFN40; RoHS: UNKNOWN; Operating Temperature Range: -40°C to +150°C; Datasheet Path: datasheets/IC-LM51772RHAR.pdf; helpURL: https://upverter.com/upn/revision/1cf1a8d362b2ff5b/; Supplier 1: Digikey; Supplier Part Number 1: 296-LM51772RHARCT-ND; Manufacturer Part Number 1: LM51772RHAR
footprint RHA0040P-MFG
pins: 1 VCC1, 2 SS/ATRK, 3 SYNC (in), 4 DTRK (in), 5 SDA/(CFG3) (io), 6 SCL(CFG4) (in), 7 MODE (in), 8 CFG2, 9 ADDR/SLOPE(CFG1) (in), 10 CDC, 11 ~{FLT} (oc), 12 RT, 13 COMP, 14 FB/~{INT}, 15 VIN-FB, 16 ILIMCOMP/ISET, 17 AGND (power), 18 VOUT, 19 ISNSN, 20 ISNSP, 21 CSB, 22 CSA, 23 SW1, 24 HO1, 25 HB1, 26 NC, 27 LO1, 28 PGND (power), 29 VCC2, 30 LO2, 31 HB2, 32 HO2, 33 SW2, 34 NC, 35 DRV1, 36 VIN (power), 37 EN/UVLO (in), 38 ~{RST} (in), 39 NC, 40 BIAS, 41 GND (power)

## LP5810BDSDR
designator U?
4-channel RGBW LED driver with I2C and auto animation control 8-SON -40 to 85; Manufacturer 1: Texas Instruments; Manufacturer Part Number 1: LP5810BDSDR; Supplier 1: Digikey; Supplier Part Number 1: 296-LP5810BDSDRCT-ND
footprint DSD0008B-IPC_A
pins: 1 VCC (power), 2 SYNC (io), 3 SCL (in), 4 SDA (io), 5 OUT3, 6 OUT2, 7 OUT1, 8 OUT0, 9 GND (power)

## LV14540
designator U?, comment LV14540DDAR
Buck Switching Regulator IC Positive Adjustable 0.8V 1 Output 5A 8-PowerSOIC (0.154", 3.90mm Width); Manufacturer 1: Texas Instruments; Supplier 1: Digikey; Supplier Part Number 1: 296-LV14540DDAR-ND; Manufacturer Part Number 1: LV14540DDAR
footprint HSOIC8
pins: 1 BOOT (power), 2 VIN (power), 3 EN (power), 4 RT/SYNC (power), 5 FB (power), 6 SS (power), 7 GND (power), 8 SW (power), 9 EPAD (power)

## NORA-W306-00B
designator U?
Bluetooth, WiFi 802.11a/b/g/n, Bluetooth v5.0 Transceiver Module 2.4GHz, 5GHz PCB Trace Surface Mount; Manufacturer 1: u-blox; Manufacturer Part Number 1: NORA-W306-00B; Supplier 1: Digikey; Supplier Part Number 1: 672-NORA-W306-00BCT-ND
footprint NORA-W306-00B
part A pins: A5 PA7, A6 PA8, B1 PA30, B3 PA28, C1 PA26, C2 PA25, C8 PB23, D8 PB1, E8 PB2, E9 PB22, F8 PB21, F9 PB20, G8 PB19, G9 PB18, H2 PA27, H8 PA15, H9 PA14, J2 PB3, J3 ~{RESET}, J8 PA13, J9 PA12
part B pins: A1 VSS (power), A7 VDD (power), A8 VDD (power), A9 VSS (power), B2 VSS (power), B7 VDD (power), B8 VSS (power), E4 VSS (power), E5 VSS (power), F4 VSS (power), F5 VSS (power), K2 VSS (power), K3 VSS (power), K5 VSS (power), K7 VSS (power), K8 VSS (power), L1 VSS (power), L9 VSS (power), M1 VSS (power), M2 VSS (power), M8 VSS (power), M9 VSS (power)
part C pins: A2 NC, A3 NC, A4 NC, B4 NC, B5 NC, B6 NC, B9 NC, C4 NC, C5 NC, C6 NC, C9 NC, D1 NC, D2 NC, D3 NC, D7 NC, D9 NC, E1 NC, E2 NC, E3 NC, E7 NC, F1 NC, F2 NC, F3 NC, F7 NC, G1 NC, G2 NC, G3 NC, G4 NC, G5 NC, G7 NC, H1 NC, H3 NC, H7 NC, J1 NC, J4 NC, J5 NC, J7 NC, K1 NC, K9 NC

## NPTH_HOLE
designator MH?, comment NPTH HOLE  (value not drawn)  (no BOM)
NPTH Mounting Hole
footprint NPTH_HOLE (4.2 MM NPTH HOLE)

## PA2512FKF7T2U5E
designator R?  value 2.5mR  Power: 3W  (hidden comment: PA2512FKF7T2U5E)
RES 0.0025 OHM 1% 3W 2512; Manufacturer 1: YAGEO; Manufacturer Part Number 1: PA2512FKF7T2U5E; Supplier 1: Digikey; Supplier Part Number 1: 13-PA2512FKF7T2U5ECT-ND; Case/Package: 2512; Tolerance: 1%
footprint R2512 (Chip Resistor; Body 6.4 x 3.2 mm (LxW typ))
pins: 1, 2

## PRG18BC150MM1RB
designator R?  Current - Trip (It): 135 mA  Current - Hold (Ih) (Max): 64 mA  Case/Package: 0603
Ceramic PTC Resettable Fuse 30V 64 mA Ih Surface Mount 0603 (1608 Metric); Manufacturer 1: Murata Electronics; Manufacturer Part Number 1: PRG18BC150MM1RB; Supplier 1: Digikey; Supplier Part Number 1: 490-PRG18BC150MM1RBDKR-ND
footprint R0603 (Chip Resistor; Body 1.6 x 0.9 mm (LxW typ))
pins: 1, 2

## RC0603FR-071KL
designator R?  value 1kR  Tolerance: 1%  (hidden comment: RC0603FR-071KL)
RES 1K OHM 1% 1/10W 0603; Manufacturer 1: YAGEO; Manufacturer Part Number 1: RC0603FR-071KL; Supplier 1: Digikey; Supplier Part Number 1: 311-1.00KHRCT-ND
footprint R0603 (Chip Resistor; Body 1.6 x 0.9 mm (LxW typ))
pins: 1, 2

## RC0603FR-074K99L
designator R?  value 4.99K  Tolerance: 1%  (hidden comment: RC0603FR-074K99L)
RES 4.99K OHM 1% 1/10W 0603; Manufacturer 1: YAGEO; Manufacturer Part Number 1: RC0603FR-074K99L; Supplier 1: Digikey; Supplier Part Number 1: 311-4.99KHRCT-ND
footprint R0603 (Chip Resistor; Body 1.6 x 0.9 mm (LxW typ))
pins: 1, 2

## RC0603FR-075K1L
designator R?  value 5.1kR  Case/Package: 0603  Tolerance: 1%  (hidden comment: RC0603FR-075K1L)
5.1 kOhms ±1% 0.1W, 1/10W Chip Resistor 0603 (1608 Metric) Moisture Resistant Thick Film; Manufacturer 1: YAGEO; Manufacturer Part Number 1: RC0603FR-075K1L; Supplier 1: Digikey; Supplier Part Number 1: 311-5.10KHRDKR-ND
footprint R0603 (Chip Resistor; Body 1.6 x 0.9 mm (LxW typ))
pins: 1, 2
1 alternate drawing of the same symbol

## RC0603FR-133K01L
designator R?  value 3.01K  Tolerance: 1%  (hidden comment: RC0603FR-133K01L)
RES 3.01K OHM 1% 1/10W 0603; Manufacturer 1: YAGEO; Manufacturer Part Number 1: RC0603FR-133K01L; Supplier 1: Digikey; Supplier Part Number 1: 13-RC0603FR-133K01LCT-ND
footprint R0603 (Chip Resistor; Body 1.6 x 0.9 mm (LxW typ))
pins: 1, 2

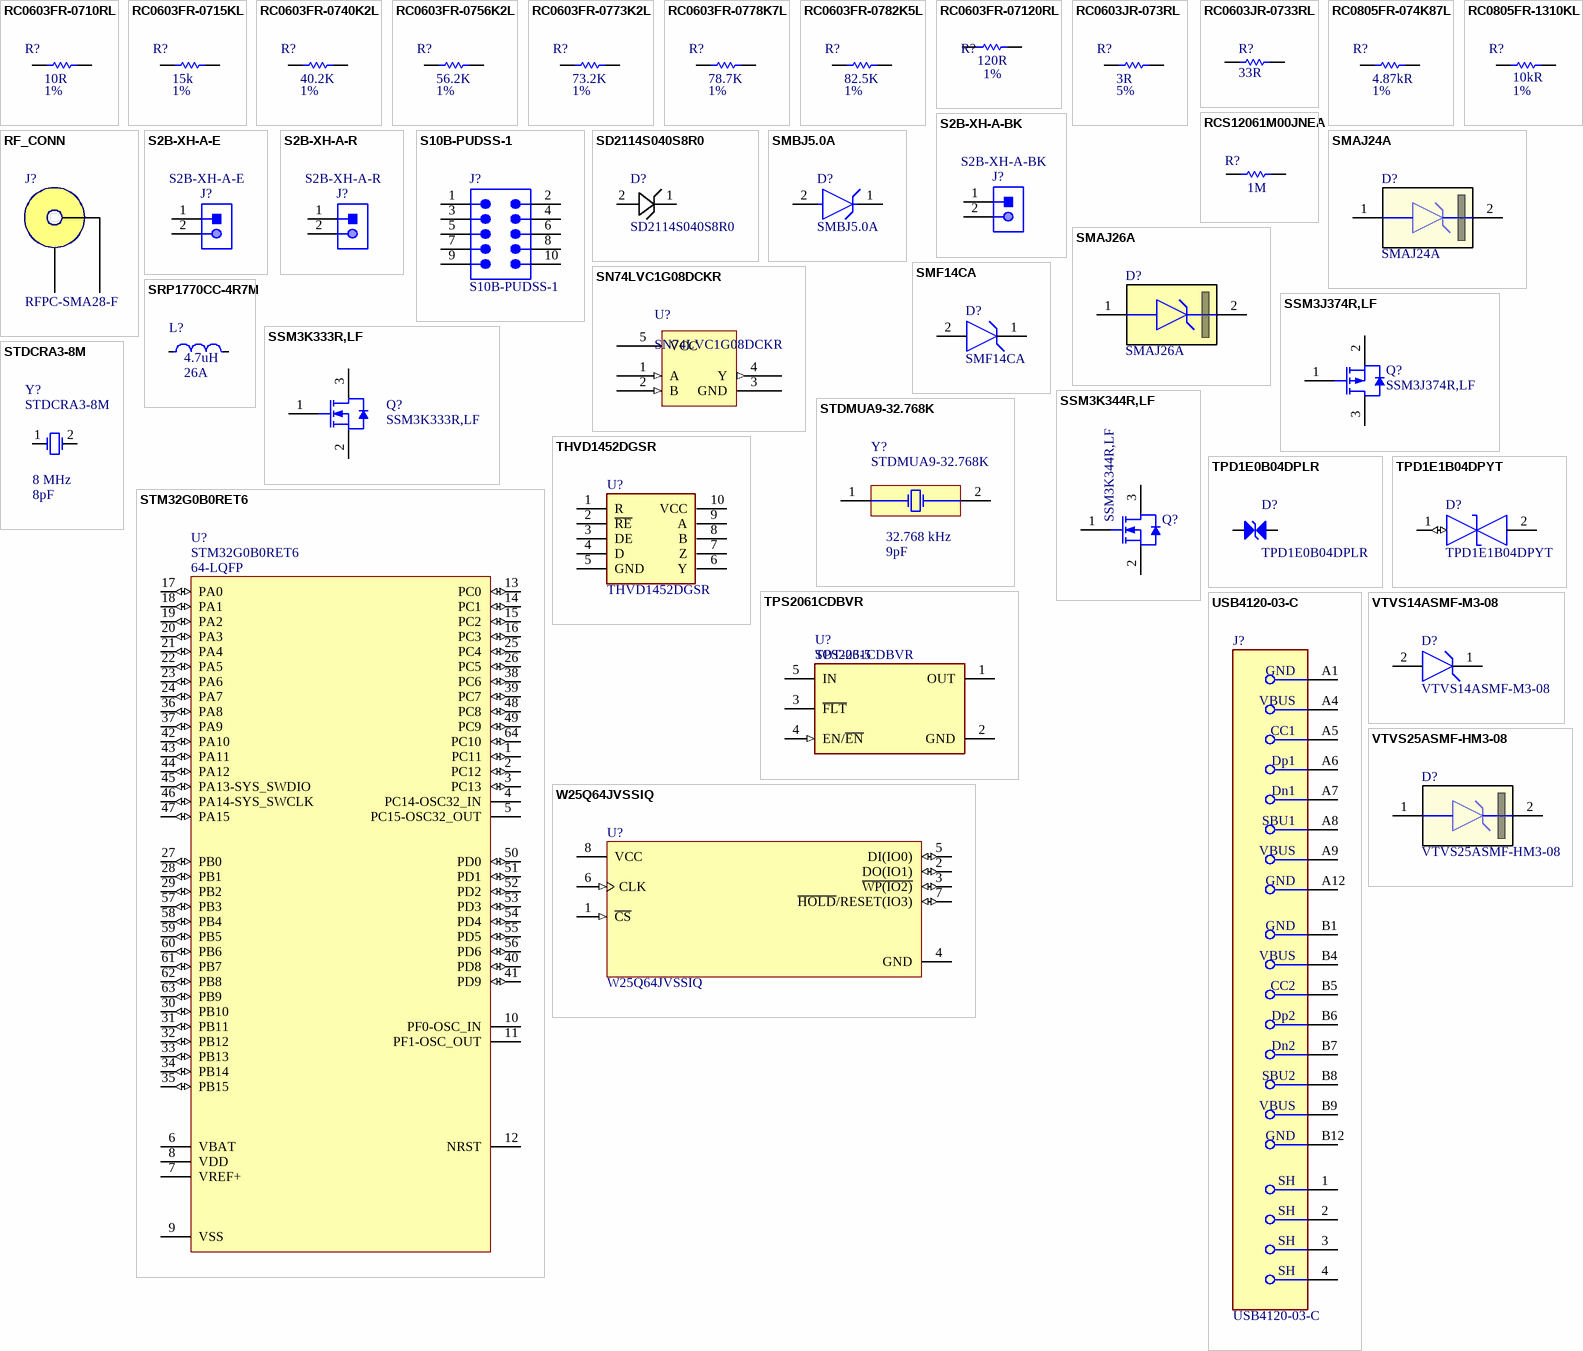
[diagram p3: symbols RC0603FR-0710RL to W25Q64JVSSIQ]

## RC0603FR-0710RL
designator R?  value 10R  Tolerance: 1%  (hidden comment: RC0603FR-0710RL)
RES 10 OHM 1% 1/10W 0603; Manufacturer 1: YAGEO; Manufacturer Part Number 1: RC0603FR-0710RL; Supplier 1: Digikey; Supplier Part Number 1: 311-10.0HRCT-ND
footprint R0603 (Chip Resistor; Body 1.6 x 0.9 mm (LxW typ))
pins: 1, 2

## RC0603FR-0715KL
designator R?  value 15k  Tolerance: 1%  (hidden comment: RC0603FR-0715KL)
RES 15K OHM 1% 1/10W 0603; Manufacturer 1: YAGEO; Manufacturer Part Number 1: RC0603FR-0715KL; Supplier 1: Digikey; Supplier Part Number 1: 311-15.0KHRCT-ND
footprint R0603 (Chip Resistor; Body 1.6 x 0.9 mm (LxW typ))
pins: 1, 2

## RC0603FR-0740K2L
designator R?  value 40.2K  Tolerance: 1%  (hidden comment: RC0603FR-0740K2L)
RES 40.2K OHM 1% 1/10W 0603; Manufacturer 1: YAGEO; Manufacturer Part Number 1: RC0603FR-0740K2L; Supplier 1: Digikey; Supplier Part Number 1: 311-40.2KHRCT-ND
footprint R0603 (Chip Resistor; Body 1.6 x 0.9 mm (LxW typ))
pins: 1, 2

## RC0603FR-0756K2L
designator R?  value 56.2K  Tolerance: 1%  (hidden comment: RC0603FR-0756K2L)
RES 56.2K OHM 1% 1/10W 0603; Manufacturer 1: YAGEO; Manufacturer Part Number 1: RC0603FR-0756K2L; Supplier 1: Digikey; Supplier Part Number 1: 311-56.2KHRCT-ND
footprint R0603 (Chip Resistor; Body 1.6 x 0.9 mm (LxW typ))
pins: 1, 2

## RC0603FR-0773K2L
designator R?  value 73.2K  Tolerance: 1%  (hidden comment: RC0603FR-0773K2L)
RES 73.2K OHM 1% 1/10W 0603; Manufacturer 1: YAGEO; Manufacturer Part Number 1: RC0603FR-0773K2L; Supplier 1: Digikey; Supplier Part Number 1: 311-73.2KHRCT-ND
footprint R0603 (Chip Resistor; Body 1.6 x 0.9 mm (LxW typ))
pins: 1, 2

## RC0603FR-0778K7L
designator R?  value 78.7K  Tolerance: 1%  (hidden comment: RC0603FR-0778K7L)
RES 78.7K OHM 1% 1/10W 0603; Manufacturer 1: YAGEO; Manufacturer Part Number 1: RC0603FR-0778K7L; Supplier 1: Digikey; Supplier Part Number 1: 311-78.7KHRCT-ND
footprint R0603 (Chip Resistor; Body 1.6 x 0.9 mm (LxW typ))
pins: 1, 2

## RC0603FR-0782K5L
designator R?  value 82.5K  Tolerance: 1%  (hidden comment: RC0603FR-0782K5L)
RES 82.5K OHM 1% 1/10W 0603; Manufacturer 1: YAGEO; Manufacturer Part Number 1: RC0603FR-0782K5L; Supplier 1: Digikey; Supplier Part Number 1: 311-82.5KHRCT-ND
footprint R0603 (Chip Resistor; Body 1.6 x 0.9 mm (LxW typ))
pins: 1, 2

## RC0603FR-07120RL
designator R?  value 120R  Tolerance: 1%  (hidden comment: RC0603FR-07120RL)
RES 120 OHM 1% 1/10W 0603; Manufacturer 1: YAGEO; Manufacturer Part Number 1: RC0603FR-07120RL; Supplier 1: Digikey; Supplier Part Number 1: 311-120HRCT-ND; Case/Package: 0603
footprint R0603 (Chip Resistor; Body 1.6 x 0.9 mm (LxW typ))
pins: 1, 2
1 alternate drawing of the same symbol

## RC0603JR-073RL
designator R?  value 3R  Tolerance: 5%  (hidden comment: RC0603JR-073RL)
RES 3 OHM 5% 1/10W 0603; Manufacturer 1: YAGEO; Manufacturer Part Number 1: RC0603JR-073RL; Supplier 1: Digikey; Supplier Part Number 1: 311-3.0GRCT-ND
footprint R0603 (Chip Resistor; Body 1.6 x 0.9 mm (LxW typ))
pins: 1, 2

## RC0603JR-0733RL
designator R?  value 33R  (hidden comment: RC0603JR-0733RL)
33 Ohms ±5% 0.1W, 1/10W Chip Resistor 0603 (1608 Metric) Moisture Resistant Thick Film; Manufacturer 1: YAGEO; Manufacturer Part Number 1: RC0603JR-0733RL; Supplier 1: Digikey; Supplier Part Number 1: 311-33GRCT-ND
footprint R0603 (Chip Resistor; Body 1.6 x 0.9 mm (LxW typ))
pins: 1, 2
1 alternate drawing of the same symbol

## RC0805FR-074K87L
designator R?  value 4.87kR  Tolerance: 1%  (hidden comment: RC0805FR-074K87L)
4.87 kOhms ±1% 0.125W, 1/8W Chip Resistor 0805 (2012 Metric) Moisture Resistant Thick Film; Manufacturer 1: YAGEO; Manufacturer Part Number 1: RC0805FR-074K87L; Supplier 1: Digikey; Supplier Part Number 1: RC0805FR-074K87L
footprint R0805 (Chip Resistor; Body 2 x 1.2 mm (LxW typ))
pins: 1, 2

## RC0805FR-1310KL
designator R?  value 10kR  Tolerance: 1%  (hidden comment: RC0805FR-1310KL)
10 kOhms ±1% 0.125W, 1/8W Chip Resistor 0805 (2012 Metric) Moisture Resistant Thick Film; Manufacturer 1: YAGEO; Manufacturer Part Number 1: RC0805FR-1310KL; Supplier 1: Digikey; Supplier Part Number 1: 13-RC0805FR-1310KLCT-ND
footprint R0805 (Chip Resistor; Body 2 x 1.2 mm (LxW typ))
pins: 1, 2

## RCS12061M00JNEA
designator R?  value 1M  (hidden comment: RCS12061M00JNEA)
RES 1M OHM 5% 1W 1206; Manufacturer 1: Vishay Dale; Manufacturer Part Number 1: RCS12061M00JNEA; Supplier 1: Digikey; Supplier Part Number 1: 541-10590-1-ND; Case/Package: 1206; Tolerance: 5%
footprint R1206 (Chip Resistor; Body 3.1 x 1.6 mm (LxW typ))
pins: 1, 2

## RF_CONN
designator J?, comment RFPC-SMA28-F
SMA VERTICAL PCB JACK; Manufacturer 1: GCT; Manufacturer Part Number 1: RFPC-SMA28-F; Supplier 1: Digikey; Supplier Part Number 1: 2073-RFPC-SMA28-F-ND
footprint CONN_SMA_JACK (CONN SMA RCPT STR 50 OHM PCB)
pins: 1 GND, 2 RF

## S2B-XH-A-BK
designator J?  Manufacturer Part Number 1: S2B-XH-A-BK
Male Header, Pitch 2.5 mm, 1 x 2 Position, Height 6.1 mm, Tail Length 3.4 mm, -25 to 85 degC, RoHS, Bulk; Manufacturer 1: JST Sales America Inc.; Voltage Rating (DC): 100 V; Tolerance: 10%; Case\Package: Radial; Min Operating Temperature: -55 degC; Mount: Through Hole; Package Quantity: 500; Max Operating Temperature: 125 degC; RoHSCompliant: true; REACH SVHC: No SVHC; Packaging: Bulk; Width: 3.81 mm; Length: 5.33 mm; Height: 2.54 mm; Pins: 2; Radiation Hardening: No; Lead Pitch: 2.54 mm; Voltage Rating: 100 V; Manufacturer 2: JST Sales America Inc.; Manufacturer Part Number 2: S2B-XH-A(LF)(SN); Manufacturer 3: CJT; Manufacturer Part Number 3: A2501WR-2P-BK
footprint JST-S2B-XH-ABK_BLACK (Header, 2-Leads, Body 7.4x11.5mm, Pitch 2.5mm, BLACK)
pins: 1, 2

## S2B-XH-A-E
designator J?  Manufacturer Part Number 1: S2B-XH-A-E
Male Header, Pitch 2.5 mm, 1 x 2 Position, Height 6.1 mm, Tail Length 3.4 mm, -25 to 85 degC, RoHS, Bulk; Manufacturer 1: JST Sales America Inc.; Voltage Rating (DC): 100 V; Tolerance: 10%; Case\Package: Radial; Min Operating Temperature: -55 degC; Mount: Through Hole; Package Quantity: 500; Max Operating Temperature: 125 degC; RoHSCompliant: true; REACH SVHC: No SVHC; Packaging: Bulk; Width: 3.81 mm; Length: 5.33 mm; Height: 2.54 mm; Pins: 2; Radiation Hardening: No; Lead Pitch: 2.54 mm; Voltage Rating: 100 V; Manufacturer 2: JST Sales America Inc.; Manufacturer Part Number 2: S2B-XH-A(LF)(SN); Manufacturer 3: CJT; Manufacturer Part Number 3: A2501WR-2P-BL
footprint JST-S2B-XH-AE_BLUE (Header, 2-Leads, Body 7.4x11.5mm, Pitch 2.5mm, BLUE)
pins: 1, 2

## S2B-XH-A-R
designator J?  Manufacturer Part Number 1: S2B-XH-A-R
Male Header, Pitch 2.5 mm, 1 x 2 Position, Height 6.1 mm, Tail Length 3.4 mm, -25 to 85 degC, RoHS, Bulk; Manufacturer 1: JST Sales America Inc.; Voltage Rating (DC): 100 V; Tolerance: 10%; Case\Package: Radial; Min Operating Temperature: -55 degC; Mount: Through Hole; Package Quantity: 500; Max Operating Temperature: 125 degC; RoHSCompliant: true; REACH SVHC: No SVHC; Packaging: Bulk; Width: 3.81 mm; Length: 5.33 mm; Height: 2.54 mm; Pins: 2; Radiation Hardening: No; Lead Pitch: 2.54 mm; Voltage Rating: 100 V; Manufacturer 2: JST Sales America Inc.; Manufacturer Part Number 2: S2B-XH-A(LF)(SN); Manufacturer 3: CJT; Manufacturer Part Number 3: A2501WR-2P-RD
footprint JST-S2B-XH-AR_RED (Header, 2-Leads, Body 7.4x11.5mm, Pitch 2.5mm, RED)
pins: 1, 2

## S10B-PUDSS-1
designator J?
Connector Header Through Hole, Right Angle 10 position 0.079" (2.00mm); Manufacturer 1: JST Sales America Inc.; Manufacturer Part Number 1: S10B-PUDSS-1(LF)(SN); Supplier 1: Digikey; Supplier Part Number 1: 455-S10B-PUDSS-1-ND
footprint CONN_S10B-PUDSS-1_JST
pins: 1, 2, 3, 4, 5, 6, 7, 8, 9, 10

## SD2114S040S8R0
designator D?
Diode 40 V 8A Surface Mount 2114/DO-214AA; Manufacturer 1: KYOCERA AVX; Supplier 1: Digikey; Supplier Part Number 1: 478-7817-1-ND; Manufacturer Part Number 1: SD2114S040S8R0
footprint SD2114_AVX
pins: 1, 2

## SMAJ24A
designator D?
38.9V Clamp 10.3A Ipp Tvs Diode Surface Mount DO-214AC (SMA); Manufacturer 1: Littelfuse Inc.; Supplier 1: Digikey; Supplier Part Number 1: SMAJ24ALFCT-ND; Manufacturer Part Number 1: SMAJ24A
footprint SMA (DO-214AC)
pins: 1 A, 2 C

## SMAJ26A
designator D?
TVS DIODE 26VWM 42.1VC DO214AC; Manufacturer 1: Littelfuse Inc.; Supplier 1: Digikey; Supplier Part Number 1: SMAJ26ALFCT-ND; Manufacturer Part Number 1: SMAJ26A
footprint SMA (DO-214AC)
pins: 1 A, 2 C

## SMBJ5.0A
designator D?
TVS DIODE 5VWM 9.2VC DO214AA (SMB); Manufacturer 1: Bourns Inc.; Voltage - Reverse Standoff (Typ): 5V; Voltage - Breakdown (Min): 6.4V; Voltage - Clamping (Max) @ Ipp: 9.2V; Current - Peak Pulse (10/1000µs): 65.2A; Manufacturer Part Number 1: SMBJ5.0A; Supplier 1: Digikey; Supplier Part Number 1: SMBJ5.0ABCT-ND; Case: DO-214AA, SMB
footprint SMBDO-214AA_VIS (Surface Mount DO-214AA (SMB))
pins: 1 IO, 2 GND

## SMF14CA
designator D?
23.2V Clamp 8.6A Ipp Tvs Diode Surface Mount SOD-123FL; Manufacturer 1: Shenzhen Slkormicro Semicon Co., Ltd.; Manufacturer Part Number 1: SMF14CA; Supplier 1: Digikey; Supplier Part Number 1: 5399-SMF14CACT-ND; Manufacturer 2: Littelfuse Inc.; Manufacturer Part Number 2: SMF14CA; Supplier 2: Digikey; Supplier Part Number 2: 18-SMF14CACT-ND
footprint SMF
pins: 1 C, 2 A

## SN74LVC1G08DCKR
designator U?
IC GATE AND 1CH 2-INP SC70-5; Manufacturer 1: Texas Instruments; Manufacturer Part Number 1: SN74LVC1G08DCKR; Supplier 1: Digikey; Supplier Part Number 1: 296-11602-1-ND
footprint FP-DBV0005A-IPC_C
pins: 1 A (in), 2 B (in), 3 GND (power), 4 Y (out), 5 VCC (power)

## SRP1770CC-4R7M
designator L?  value 4.7uH  Current Rating: 26A  (hidden comment: SRP1770CC-4R7M)
FIXED IND 4.7UH 26A 5.5 MOHM SMD; Manufacturer 1: Bourns Inc.; Inductance Tolerance: 20%; DC Resistance (DCR): 4.8mohm; Manufacturer Part Number 1: SRP1770CC-4R7M; Supplier 1: Digikey; Supplier Part Number 1: 118-SRP1770CC-4R7MCT-ND
footprint SRP1770CC-4R7M
pins: 1, 2

## SSM3J374R,LF
designator Q?
P-Channel 30 V 4A (Ta) 1W (Ta) Surface Mount SOT-23F; Manufacturer 1: Toshiba Semiconductor and Storage; Supplier 1: Digikey; Supplier Part Number 1: SSM3J374RLFCT-ND; Manufacturer Part Number 1: SSM3J374R,LF
footprint SOT23F
pins: 1 G, 2 S2, 3 D

## SSM3K333R,LF
designator Q?
N-Channel 30 V 6A (Ta) 1W (Ta) Surface Mount SOT-23F; Manufacturer 1: Toshiba Semiconductor and Storage; Supplier 1: Digikey; Supplier Part Number 1: SSM3K333RLFCT-ND; Manufacturer Part Number 1: SSM3K333R,LF
footprint SOT23F
pins: 1 G, 2 S, 3 D

## SSM3K344R,LF
designator Q?
N-Channel 20 V 3A (Ta) 1W (Ta) Surface Mount SOT-23F; Manufacturer 1: Toshiba Semiconductor and Storage; Supplier 1: Digikey; Supplier Part Number 1: SSM3K344RLFCT-ND; Manufacturer Part Number 1: SSM3K344R,LF
footprint SOT23F
pins: 1 G, 2 S, 3 D

## STDCRA3-8M
designator Y?  value 8 MHz  Load Capacitance: 8pF
8 MHz ±50ppm Crystal 8pF 500 Ohms 2-SMD, No Lead; Manufacturer 1: NDK (NIHON DEMPA KOGYO CO., LTD); Case/Package: SMD/SMT; Manufacturer Part Number 1: STDCRA3-8M; Supplier 1: Digikey; Supplier Part Number 1: 644-STDCRA3-8MDKR-ND; Tolerance: 50ppm
footprint NDK-NX3225GD-8MHZ-STD-CRA-3_V (SMD, 2-Leads, Body 3.2x2.5mm)
pins: 1, 2

## STDMUA9-32.768K
designator Y?  value 32.768 kHz  Load Capacitance: 9pF
32.768 kHz ±20ppm Crystal 9pF 70 kOhms 2-SMD, No Lead; Manufacturer 1: NDK (NIHON DEMPA KOGYO CO., LTD); Supplier 1: Digikey; Manufacturer Part Number 1: STDMUA9-32.768K; Supplier Part Number 1: 644-STDMUA9-32.768KDKR-ND; Case/Package: 2-SMD, No Lead; Tolerance: 20ppm
footprint STDMUA9-32.768K
pins: 1 XTAL1, 2 XTAL2

## STM32G0B0RET6
designator U?  Case/Package: 64-LQFP
ARM® Cortex®-M0+ STM32G0 Microcontroller IC 32-Bit Single-Core 64MHz 512KB (512K x 8) FLASH 64-LQFP (10x10); Manufacturer 1: STMicroelectronics; Manufacturer Part Number 1: STM32G0B0RET6; Supplier 1: Digikey; Supplier Part Number 1: 497-STM32G0B0RET6-ND
footprint 64-LQFP
pins: 1 PC11 (io), 2 PC12 (io), 3 PC13 (io), 4 PC14-OSC32_IN, 5 PC15-OSC32_OUT, 6 VBAT (power), 7 VREF+ (power), 8 VDD (power), 9 VSS (power), 10 PF0-OSC_IN, 11 PF1-OSC_OUT, 12 NRST, 13 PC0 (io), 14 PC1 (io), 15 PC2 (io), 16 PC3 (io), 17 PA0 (io), 18 PA1 (io), 19 PA2 (io), 20 PA3 (io), 21 PA4 (io), 22 PA5 (io), 23 PA6 (io), 24 PA7 (io), 25 PC4 (io), 26 PC5 (io), 27 PB0 (io), 28 PB1 (io), 29 PB2 (io), 30 PB10 (io), 31 PB11 (io), 32 PB12 (io), 33 PB13 (io), 34 PB14 (io), 35 PB15 (io), 36 PA8 (io), 37 PA9 (io), 38 PC6 (io), 39 PC7 (io), 40 PD8 (io), 41 PD9 (io), 42 PA10 (io), 43 PA11 (io), 44 PA12 (io), 45 PA13-SYS_SWDIO (io), 46 PA14-SYS_SWCLK (io), 47 PA15 (io), 48 PC8 (io), 49 PC9 (io), 50 PD0 (io), 51 PD1 (io), 52 PD2 (io), 53 PD3 (io), 54 PD4 (io), 55 PD5 (io), 56 PD6 (io), 57 PB3 (io), 58 PB4 (io), 59 PB5 (io), 60 PB6 (io), 61 PB7 (io), 62 PB8 (io), 63 PB9 (io), 64 PC10 (io)